# EAGLE library part CY8CMBR3110 (library PatternAgents-Cypress)
Cypress CY8CMBR3110 - Proximity Capacitive Touch Sensor Controller Source Data: http://www.cypress.com/part/cy8cmbr3116-lqxi PKG Source: http://www.cypress.com/part/cy8cmbr3116-lqxi LBR Source: http://www.patternagents.com THIS SOFTWARE IS PROVIDED BY THE CONTRIBUTORS "AS IS" AND WITHOUT ANY EXPRESS OR IMPLIED WARRANTIES, INCLUDING, BUT NOT LIMITED TO, THE IMPLIED WARRANTIES OF MERCHANTABILITY AND FITNESS FOR A PARTICULAR PURPOSE ARE DISCLAIMED. IN NO EVENT SHALL THE COPYRIGHT OWNER OR CONTRIBUTORS BE LIABLE FOR ANY DIRECT, INDIRECT, INCIDENTAL, SPECIAL, EXEMPLARY, OR CONSEQUENTIAL DAMAGES (INCLUDING, BUT NOT LIMITED TO, PROCUREMENT OF SUBSTITUTE GOODS OR SERVICES; LOSS OF USE, DATA, OR PROFITS; OR BUSINESS INTERRUPTION) HOWEVER CAUSED AND ON ANY THEORY OF LIABILITY, WHETHER IN CONTRACT, STRICT LIABILITY, OR TORT (INCLUDING NEGLIGENCE OR OTHERWISE) ARISING IN ANY WAY OUT OF THE USE OF THIS SOFTWARE, EVEN IF ADVISED OF THE POSSIBILITY OF SUCH DAMAGE.
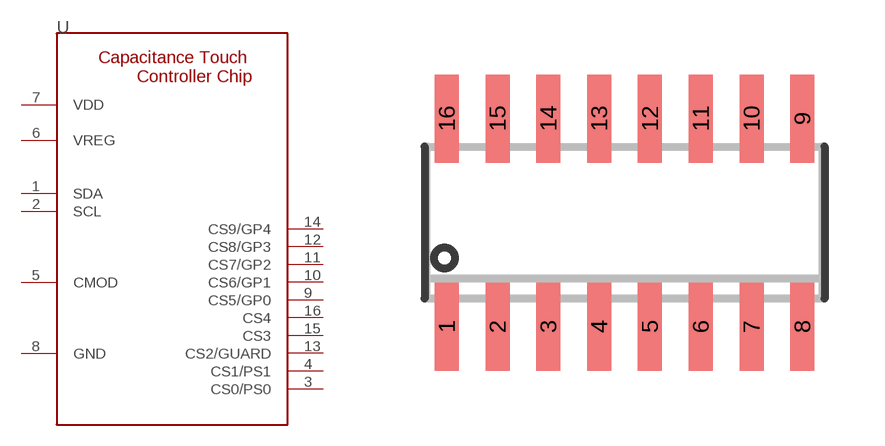
[diagram p29: symbol with the pads of SOIC16_150MIL; footprint SOIC16_150MIL]

Designator prefix -

## CY8CMBR3110-SX2I  [SOIC16_150MIL]
1  SDA
2  SCL
3  CS0/PS0
4  CS1/PS1
5  CMOD
6  VREG
7  VDD
8  GND
9  CS5/GP0
10  CS6/GP1
11  CS7/GP2
12  CS8/GP3
13  CS2/GUARD
14  CS9/GP4
15  CS3
16  CS4

## Footprint SOIC16_150MIL (pad centres in mm)
SMALL OUTLINE INTEGRATED CIRCUIT
smd 0.6 x 2.2: 1 -4.445,-2.6; 2 -3.175,-2.6; 3 -1.905,-2.6; 4 -0.635,-2.6; 5 0.635,-2.6; 6 1.905,-2.6; 7 3.175,-2.6; 8 4.445,-2.6; 9 4.445,2.6; 10 3.175,2.6; 11 1.905,2.6; 12 0.635,2.6; 13 -0.635,2.6; 14 -1.905,2.6; 15 -3.175,2.6; 16 -4.445,2.6